# EAGLE library part 48406-0003 (library 48406-0003)
USB Connectors USB 3.0 F/A STD RA REC STACKED 15u' Source: Datasheet <https://www.molex.com/pdm_docs/sd/484060003_sd.pdf>
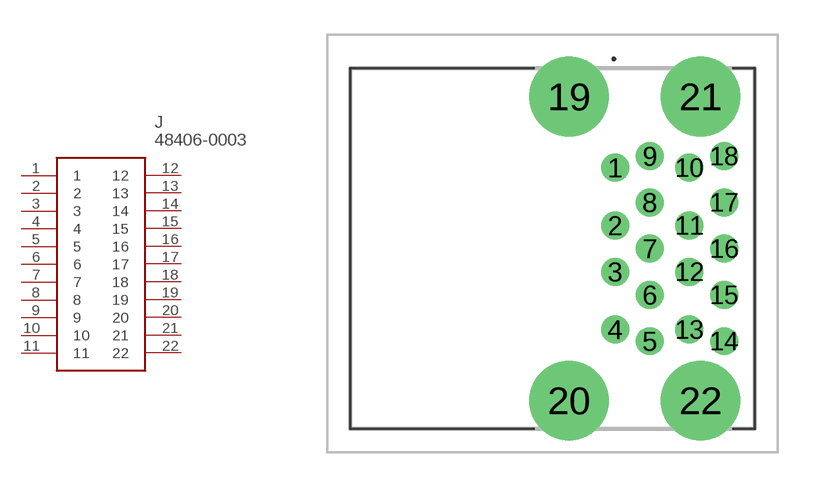
[diagram p0: symbol with the pads of 484060003; footprint 484060003]

Designator prefix J

## 48406-0003 (Description: USB Connectors USB 3.0 F/A STD RA REC STACKED 15u'; Height: 15.65mm; Manufacturer_Name: Molex; Manufacturer_Part_Number: 48406-0003; Mouser_Part_Number: 538-48406-0003; Mouser_Price-Stock: https://www.mouser.co.uk/ProductDetail/Molex/48406-0003?qs=KpdAywxU013TNkt7z6Qq8g%3D%3D)  [484060003]
1  1
2  2
3  3
4  4
5  5
6  6
7  7
8  8
9  9
10  10
11  11
12  12
13  13
14  14
15  15
16  16
17  17
18  18
19  19
20  20
21  21
22  22

## Footprint 484060003 (pad centres in mm)
48406-0003-3
drill 0.7 pad 1.2: 1 0,0; 2 0,-2.5; 3 0,-4.5; 4 0,-7; 5 1.5,-7.5; 6 1.5,-5.5; 7 1.5,-3.5; 8 1.5,-1.5; 9 1.5,0.5; 10 3.2,0; 11 3.2,-2.5; 12 3.2,-4.5; 13 3.2,-7; 14 4.7,-7.5; 15 4.7,-5.5; 16 4.7,-3.5; 17 4.7,-1.5; 18 4.7,0.5
drill 2.3 pad 3.45: 19 -2,3.07; 20 -2,-10.07; 21 3.68,3.07; 22 3.68,-10.07